# Altium schematic symbol library MIMX8MN5DVPIZAA.SchLib: 1 symbol
Pins are listed as number, name and electrical type; pins without a type are passive.

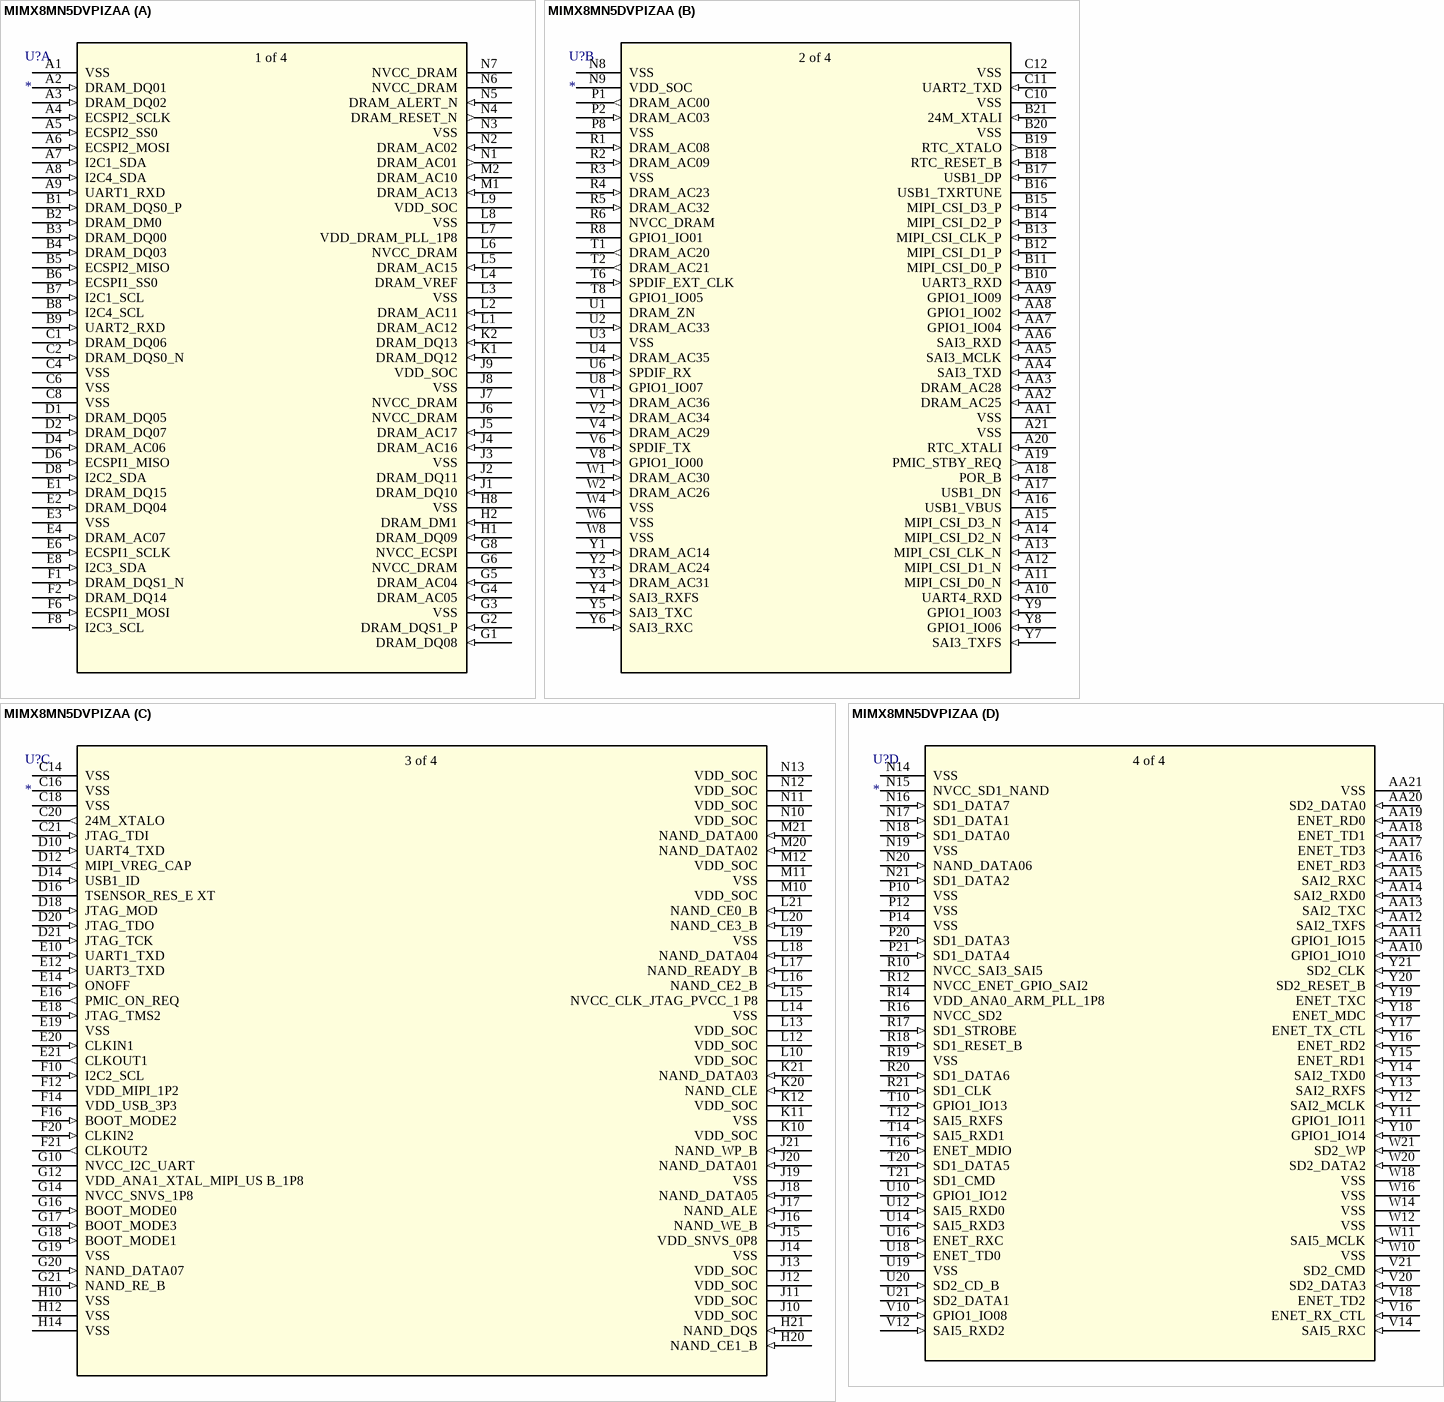
[diagram p0: symbol MIMX8MN5DVPIZAA]

## MIMX8MN5DVPIZAA
designator U?
No Description Available; Mfr_Name: NXP; RefDes: RefDes; Type: Type
footprint MIMX8MN5DVPIZAA_NXP
part A pins: A1 VSS (power), A2 DRAM_DQ01 (in), A3 DRAM_DQ02 (in), A4 ECSPI2_SCLK (in), A5 ECSPI2_SS0 (in), A6 ECSPI2_MOSI (in), A7 I2C1_SDA (in), A8 I2C4_SDA (in), A9 UART1_RXD (in), B1 DRAM_DQS0_P (in), B2 DRAM_DM0 (in), B3 DRAM_DQ00 (in), B4 DRAM_DQ03 (in), B5 ECSPI2_MISO (in), B6 ECSPI1_SS0 (in), B7 I2C1_SCL (in), B8 I2C4_SCL (in), B9 UART2_RXD (in), C1 DRAM_DQ06 (in), C2 DRAM_DQS0_N (in), C4 VSS (power), C6 VSS (power), C8 VSS (power), D1 DRAM_DQ05 (in), D2 DRAM_DQ07 (in), D4 DRAM_AC06 (in), D6 ECSPI1_MISO (in), D8 I2C2_SDA (in), E1 DRAM_DQ15 (in), E2 DRAM_DQ04 (in), E3 VSS (power), E4 DRAM_AC07 (in), E6 ECSPI1_SCLK (in), E8 I2C3_SDA (in), F1 DRAM_DQS1_N (in), F2 DRAM_DQ14 (in), F6 ECSPI1_MOSI (in), F8 I2C3_SCL (in), G1 DRAM_DQ08 (in), G2 DRAM_DQS1_P (in), G3 VSS (power), G4 DRAM_AC05 (in), G5 DRAM_AC04 (in), G6 NVCC_DRAM (power), G8 NVCC_ECSPI (power), H1 DRAM_DQ09 (in), H2 DRAM_DM1 (in), H8 VSS (power), J1 DRAM_DQ10 (in), J2 DRAM_DQ11 (in), J3 VSS (power), J4 DRAM_AC16 (in), J5 DRAM_AC17 (in), J6 NVCC_DRAM (power), J7 NVCC_DRAM (power), J8 VSS (power), J9 VDD_SOC (power), K1 DRAM_DQ12 (in), K2 DRAM_DQ13 (in), L1 DRAM_AC12 (in), L2 DRAM_AC11 (in), L3 VSS (power), L4 DRAM_VREF, L5 DRAM_AC15 (in), L6 NVCC_DRAM (power), L7 VDD_DRAM_PLL_1P8 (power), L8 VSS (power), L9 VDD_SOC (power), M1 DRAM_AC13 (in), M2 DRAM_AC10 (in), N1 DRAM_AC01 (out), N2 DRAM_AC02 (in), N3 VSS (power), N4 DRAM_RESET_N (out), N5 DRAM_ALERT_N (in), N6 NVCC_DRAM (power), N7 NVCC_DRAM (power)
part B pins: A10 UART4_RXD (in), A11 MIPI_CSI_D0_N (in), A12 MIPI_CSI_D1_N (in), A13 MIPI_CSI_CLK_N (in), A14 MIPI_CSI_D2_N (in), A15 MIPI_CSI_D3_N (in), A16 USB1_VBUS, A17 USB1_DN (in), A18 POR_B (in), A19 PMIC_STBY_REQ (out), A20 RTC_XTALI (in), A21 VSS (power), AA1 VSS (power), AA2 DRAM_AC25 (in), AA3 DRAM_AC28 (in), AA4 SAI3_TXD (in), AA5 SAI3_MCLK (in), AA6 SAI3_RXD (in), AA7 GPIO1_IO04 (in), AA8 GPIO1_IO02 (in), AA9 GPIO1_IO09 (in), B10 UART3_RXD (in), B11 MIPI_CSI_D0_P (in), B12 MIPI_CSI_D1_P (in), B13 MIPI_CSI_CLK_P (in), B14 MIPI_CSI_D2_P (in), B15 MIPI_CSI_D3_P (in), B16 USB1_TXRTUNE, B17 USB1_DP (in), B18 RTC_RESET_B (in), B19 RTC_XTALO (out), B20 VSS (power), B21 24M_XTALI (in), C10 VSS (power), C11 UART2_TXD (in), C12 VSS (power), N8 VSS (power), N9 VDD_SOC (power), P1 DRAM_AC00 (out), P2 DRAM_AC03 (in), P8 VSS (power), R1 DRAM_AC08 (in), R2 DRAM_AC09 (in), R3 VSS (power), R4 DRAM_AC23 (in), R5 DRAM_AC32 (in), R6 NVCC_DRAM (power), R8 GPIO1_IO01, T1 DRAM_AC20 (out), T2 DRAM_AC21 (out), T6 SPDIF_EXT_CLK (in), T8 GPIO1_IO05, U1 DRAM_ZN, U2 DRAM_AC33 (in), U3 VSS (power), U4 DRAM_AC35 (in), U6 SPDIF_RX (in), U8 GPIO1_IO07 (in), V1 DRAM_AC36 (in), V2 DRAM_AC34 (in), V4 DRAM_AC29 (in), V6 SPDIF_TX (in), V8 GPIO1_IO00 (in), W1 DRAM_AC30 (in), W2 DRAM_AC26 (in), W4 VSS (power), W6 VSS (power), W8 VSS (power), Y1 DRAM_AC14 (in), Y2 DRAM_AC24 (in), Y3 DRAM_AC31 (in), Y4 SAI3_RXFS (in), Y5 SAI3_TXC (in), Y6 SAI3_RXC (in), Y7 SAI3_TXFS (in), Y8 GPIO1_IO06 (in), Y9 GPIO1_IO03 (in)
part C pins: C14 VSS (power), C16 VSS (power), C18 VSS (power), C20 24M_XTALO (out), C21 JTAG_TDI (in), D10 UART4_TXD (in), D12 MIPI_VREG_CAP (out), D14 USB1_ID (in), D16 TSENSOR_RES_E XT, D18 JTAG_MOD (in), D20 JTAG_TDO (in), D21 JTAG_TCK (in), E10 UART1_TXD (in), E12 UART3_TXD (in), E14 ONOFF (in), E16 PMIC_ON_REQ (out), E18 JTAG_TMS2 (in), E19 VSS (power), E20 CLKIN1 (in), E21 CLKOUT1 (out), F10 I2C2_SCL (in), F12 VDD_MIPI_1P2 (power), F14 VDD_USB_3P3 (power), F16 BOOT_MODE2 (in), F20 CLKIN2 (in), F21 CLKOUT2 (out), G10 NVCC_I2C_UART (power), G12 VDD_ANA1_XTAL_MIPI_US B_1P8 (power), G14 NVCC_SNVS_1P8 (power), G16 BOOT_MODE0 (in), G17 BOOT_MODE3 (in), G18 BOOT_MODE1 (in), G19 VSS (power), G20 NAND_DATA07 (in), G21 NAND_RE_B (in), H10 VSS (power), H12 VSS (power), H14 VSS (power), H20 NAND_CE1_B (in), H21 NAND_DQS (in), J10 VDD_SOC (power), J11 VDD_SOC (power), J12 VDD_SOC (power), J13 VDD_SOC (power), J14 VSS (power), J15 VDD_SNVS_0P8 (power), J16 NAND_WE_B (in), J17 NAND_ALE (in), J18 NAND_DATA05 (in), J19 VSS (power), J20 NAND_DATA01 (in), J21 NAND_WP_B (in), K10 VDD_SOC (power), K11 VSS (power), K12 VDD_SOC (power), K20 NAND_CLE (in), K21 NAND_DATA03 (in), L10 VDD_SOC (power), L12 VDD_SOC (power), L13 VDD_SOC (power), L14 VSS (power), L15 NVCC_CLK_JTAG_PVCC_1 P8 (power), L16 NAND_CE2_B (in), L17 NAND_READY_B (in), L18 NAND_DATA04 (in), L19 VSS (power), L20 NAND_CE3_B (in), L21 NAND_CE0_B (in), M10 VDD_SOC (power), M11 VSS (power), M12 VDD_SOC (power), M20 NAND_DATA02 (in), M21 NAND_DATA00 (in), N10 VDD_SOC (power), N11 VDD_SOC (power), N12 VDD_SOC (power), N13 VDD_SOC (power)
part D pins: AA10 GPIO1_IO10 (in), AA11 GPIO1_IO15 (in), AA12 SAI2_TXFS (in), AA13 SAI2_TXC (in), AA14 SAI2_RXD0 (in), AA15 SAI2_RXC (in), AA16 ENET_RD3 (in), AA17 ENET_TD3 (in), AA18 ENET_TD1 (in), AA19 ENET_RD0 (in), AA20 SD2_DATA0 (in), AA21 VSS (power), N14 VSS (power), N15 NVCC_SD1_NAND (power), N16 SD1_DATA7 (in), N17 SD1_DATA1 (in), N18 SD1_DATA0 (in), N19 VSS (power), N20 NAND_DATA06 (in), N21 SD1_DATA2 (in), P10 VSS (power), P12 VSS (power), P14 VSS (power), P20 SD1_DATA3 (in), P21 SD1_DATA4 (in), R10 NVCC_SAI3_SAI5 (power), R12 NVCC_ENET_GPIO_SAI2 (power), R14 VDD_ANA0_ARM_PLL_1P8 (power), R16 NVCC_SD2 (power), R17 SD1_STROBE (in), R18 SD1_RESET_B (in), R19 VSS (power), R20 SD1_DATA6 (in), R21 SD1_CLK (in), T10 GPIO1_IO13 (in), T12 SAI5_RXFS (in), T14 SAI5_RXD1 (in), T16 ENET_MDIO (in), T20 SD1_DATA5 (in), T21 SD1_CMD (in), U10 GPIO1_IO12 (in), U12 SAI5_RXD0 (in), U14 SAI5_RXD3 (in), U16 ENET_RXC (in), U18 ENET_TD0 (in), U19 VSS (power), U20 SD2_CD_B (in), U21 SD2_DATA1 (in), V10 GPIO1_IO08 (in), V12 SAI5_RXD2 (in), V14 SAI5_RXC (in), V16 ENET_RX_CTL (in), V18 ENET_TD2 (in), V20 SD2_DATA3 (in), V21 SD2_CMD (in), W10 VSS (power), W11 SAI5_MCLK (in), W12 VSS (power), W14 VSS (power), W16 VSS (power), W18 VSS (power), W20 SD2_DATA2 (in), W21 SD2_WP (in), Y10 GPIO1_IO14 (in), Y11 GPIO1_IO11 (in), Y12 SAI2_MCLK (in), Y13 SAI2_RXFS (in), Y14 SAI2_TXD0 (in), Y15 ENET_RD1 (in), Y16 ENET_RD2 (in), Y17 ENET_TX_CTL (in), Y18 ENET_MDC (in), Y19 ENET_TXC (in), Y20 SD2_RESET_B (in), Y21 SD2_CLK (in)
part A text: 1 of 4
part B text: 2 of 4
part C text: 3 of 4
part D text: 4 of 4